# Altium footprint library QUTMS-MCISOLibrary.PcbLib: 51 footprints (part 2 of 4)
Each footprint in its own frame and in the unit in brackets; x right, y up, seen from the top. Pads: shape width x height; smd on the part's side, far side on the other; paste and mask are expansions set on the pad; w line width, h text height; cw(c..) or ccw(c..) is an arc to the next point about the centre after c.
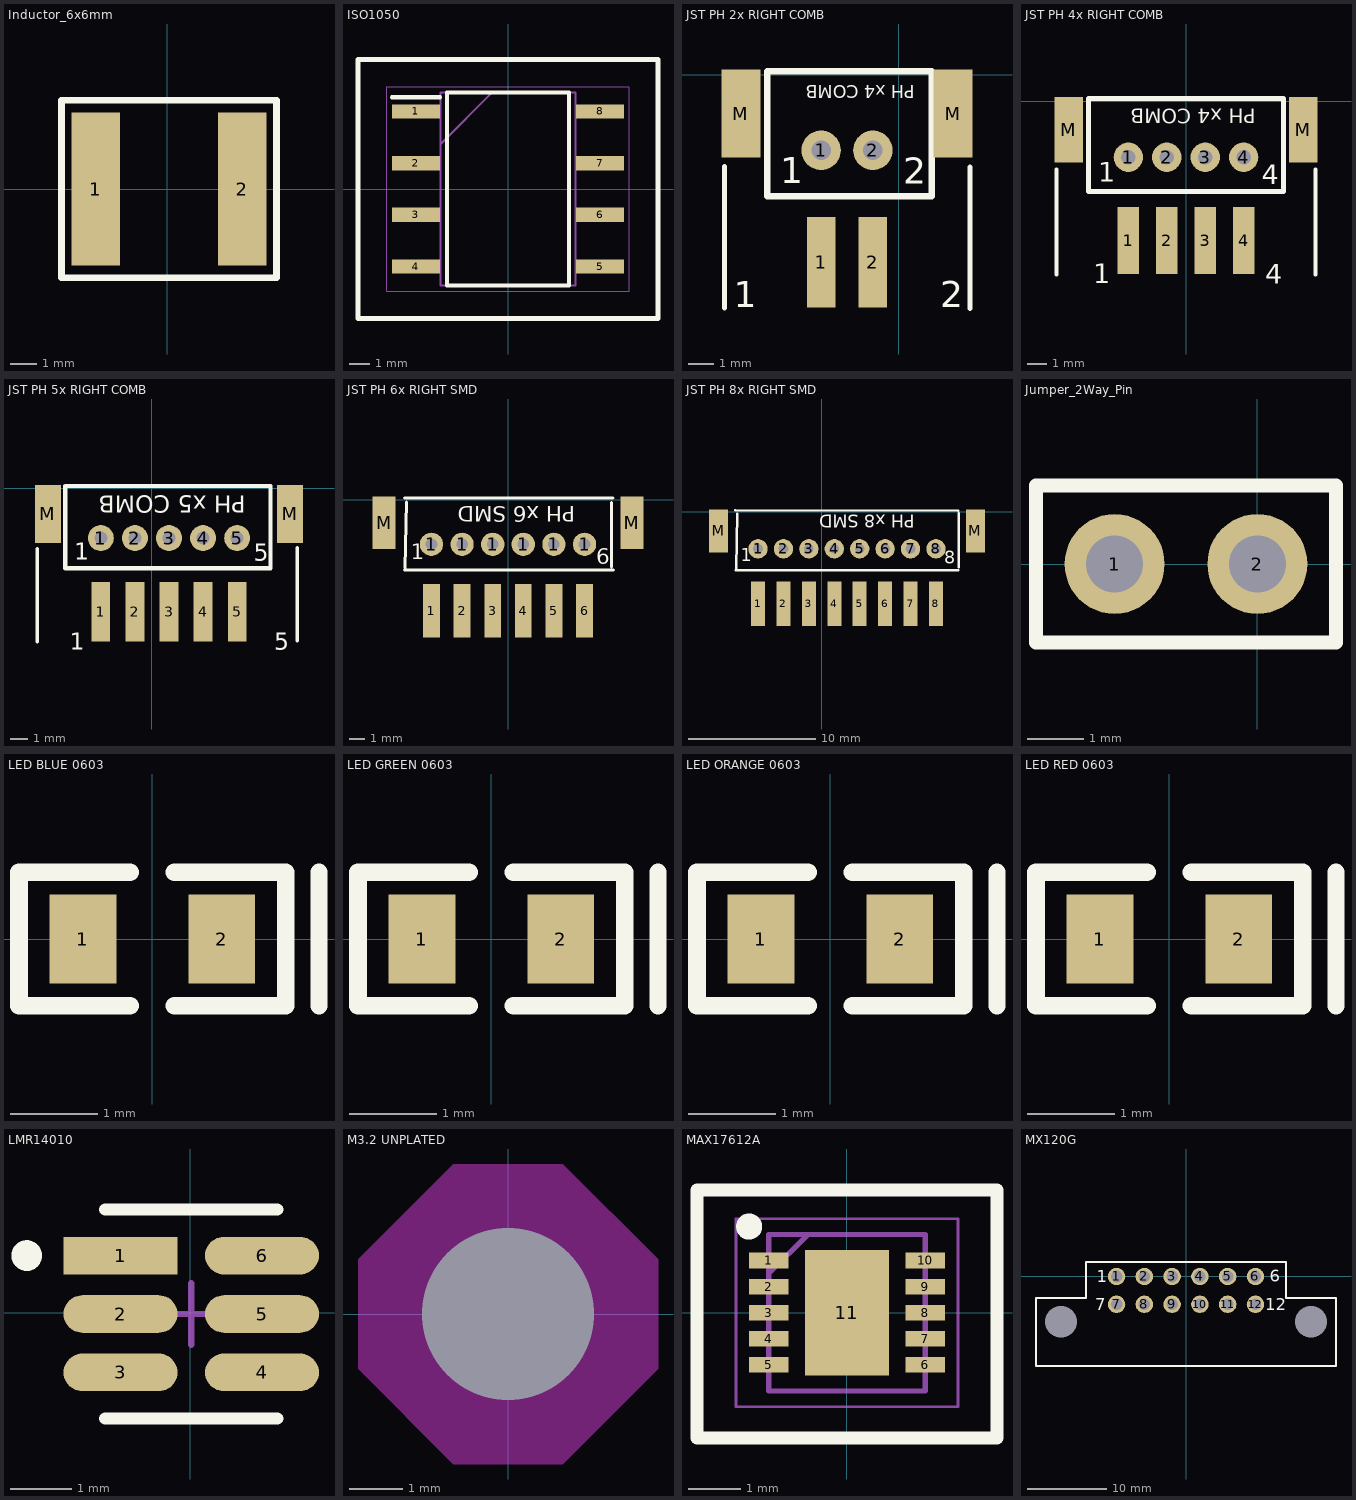
[diagram p1: the footprints below, top view; thin cyan lines are the x and y axes]

## Inductor_6x6mm [mm]
pads (2):
  rect 1.8x5.7 smd: 1(-2.667,0) 2(2.794,0)
Top Overlay:
  lines w0.254: -3.937,-3.302 4.064,-3.302 4.064,3.302 -3.937,3.302 -3.937,-3.302
3D body "74404064221_WE-LQS.stp": height 4.56, standoff 0.06, extent -3,-3 3,3

## ISO1050 [mm]
pads (8):
  rect 2.35x0.7 smd: 1(-4.525,3.81) 2(-4.525,1.27) 3(-4.525,-1.27) 4(-4.525,-3.81) 5(4.525,-3.81) 6(4.525,-1.27) 7(4.525,1.27) 8(4.525,3.81)
Top Overlay:
  lines w0.2: -5.7,4.51 -3.35,4.51 ; -3,-4.75 3,-4.75 3,4.75 -3,4.75 -3,-4.75
  lines w0.254: -7.373,-6.373 7.373,-6.373 7.373,6.373 -7.373,6.373 -7.373,-6.373
Mechanical 13:
  lines w0.1: -3.31,2.21 -0.77,4.75 ; -3.31,-4.75 3.31,-4.75 3.31,4.75 -3.31,4.75 -3.31,-4.75
Mechanical 15:
  lines w0.05: -5.95,-5.025 5.95,-5.025 5.95,5.025 -5.95,5.025 -5.95,-5.025
3D body "ISO1050DUBR.stp": height 4.85, standoff 0, extent -5.2,-4.75 5.2,4.75

## JST PH 2x RIGHT COMB [mm]
pads (6):
  rect 1.1x3.5 smd: 1(-3,-7.25) 2(-1,-7.25)
  round 1.524 hole 0.762: 1(-3,-2.921) 2(-1,-2.921)
  rect 1.5x3.4 smd: M(-6.1,-1.5) M(2.1,-1.5)
Top Overlay:
  lines w0.2: -6.731,-9.017 -6.731,-3.556 ; -4.953,0.127 1.1,0.127 ; 2.75,-9.036 2.75,-3.575
  lines w0.254: -5.08,-4.699 -5.08,0.127 1.275,0.127 1.275,-4.699 -5.08,-4.699
  text "1" at -4.572,-4.191 h1.02
  text "2" at 0.177,-4.223 h1.02
  text "PH x4 COMB" at 0.616,-0.402 h0.5
  text "1" at -6.373,-8.998 h1.02
  text "2" at 1.602,-8.998 h1.02
3D body "JST - PH - Thru (V) - 2Pin - 2.00mm.stp": height 5.89, standoff -3.05, extent -4.88,-4.65 0.981,0.024
3D body "JST - PH - SMD (R) - 2Pin - 2.00mm.stp": height 5.38, standoff 0, extent -6.173,-8.025 1.973,0.23

## JST PH 4x RIGHT COMB [mm]
pads (10):
  rect 1.1x3.5 smd: 1(-3,-7.25) 2(-1,-7.25) 3(1,-7.25) 4(3,-7.25)
  round 1.524 hole 0.762: 1(-3,-2.921) 2(-1,-2.921) 3(1,-2.921) 4(3,-2.921)
  rect 1.5x3.4 smd: M(-6.1,-1.5) M(6.1,-1.5)
Top Overlay:
  lines w0.2: -6.731,-9.017 -6.731,-3.556 ; -4.953,0.127 4.953,0.127 ; 6.731,-9.017 6.731,-3.556
  lines w0.254: -5.08,-4.699 -5.08,0.127 5.08,0.127 5.08,-4.699 -5.08,-4.699
  text "1" at -4.572,-4.191 h1.02
  text "4" at 3.937,-4.318 h1.02
  text "PH x4 COMB" at 3.624,-0.406 h0.75
  text "1" at -4.836,-9.477 h1.02
  text "4" at 4.109,-9.487 h1.02
3D body "JST - PH - Thru (V) - 4Pin - 2.00mm.stp": height 5.89, standoff -3.05, extent -4.931,-4.621 4.93,0.052
3D body "JST - PH - SMD (R) - 4Pin - 2.00mm.stp": height 5.38, standoff 0, extent -6.073,-8.2 6.073,0.055

## JST PH 5x RIGHT COMB [mm]
pads (12):
  rect 1.1x3.5 smd: 1(-3,-7.25) 2(-1,-7.25) 3(1,-7.25) 4(3,-7.25) 5(5,-7.25)
  round 1.524 hole 0.762: 1(-3,-2.921) 2(-1,-2.921) 3(1,-2.921) 4(3,-2.921) 5(5,-2.921)
  rect 1.5x3.4 smd: M(-6.1,-1.5) M(8.1,-1.5)
Top Overlay:
  lines w0.2: -6.731,-9.017 -6.731,-3.556 ; -4.953,0.127 4.953,0.127 ; 8.531,-8.942 8.531,-3.481
  lines w0.254: -5.08,-4.699 6.95,-4.699 6.95,0.127 -5.08,0.127 -5.08,-4.699
  text "5" at 7.177,-9.473 h1.02
  text "1" at -4.836,-9.477 h1.02
  text "PH x5 COMB" at 5.509,-0.427 h1.02
  text "5" at 5.977,-4.248 h1.02
  text "1" at -4.572,-4.191 h1.02
3D body "JST - PH - SMD (R) - 5Pin - 2.00mm.stp": height 5.38, standoff 0, extent -5.998,-8.03 8.148,0.225
3D body "JST - PH - Thru (V) - 5Pin - 2.00mm.stp": height 5.89, standoff -3.05, extent -4.93,-4.621 6.931,0.053

## JST PH 6x RIGHT SMD [mm]
pads (14):
  rect 1.1x3.5 smd: 1(-5,-7.25) 2(-3,-7.25) 3(-1,-7.25) 4(1,-7.25) 5(3,-7.25) 6(5,-7.25)
  round 1.524 hole 0.762: 1(-5,-2.91) 1(-3,-2.91) 1(-1,-2.91) 1(1,-2.91) 1(3,-2.91) 1(5,-2.91)
  rect 1.5x3.4 smd: M(-8.1,-1.5) M(8.1,-1.5)
Top Overlay:
  lines w0.2: -6.775,0.125 6.85,0.125 ; -6.75,-4.6 6.875,-4.6 ; -6.725,-4.45 -6.625,-0.15 ; 6.775,-4.4 6.775,-0.175
  text "6" at 5.777,-4.223 h1.02
  text "1" at -6.348,-3.873 h1.02
  text "PH x6 SMD" at 4.401,-0.406 h1.02
3D body "JST - PH - Thru (V) - 6Pin - 2.00mm.stp": height 5.89, standoff -3.05, extent -6.955,-4.575 6.906,0.099
3D body "JST - PH - SMD (R) - 6Pin - 2.00mm.stp": height 5.38, standoff 0, extent -8.173,-8.225 7.973,0.03

## JST PH 8x RIGHT SMD [mm]
pads (18):
  rect 1.1x3.5 smd: 1(-5,-7.25) 2(-3,-7.25) 3(-1,-7.25) 4(1,-7.25) 5(3,-7.25) 6(5,-7.25) 7(7,-7.25) 8(9,-7.25)
  round 1.524 hole 0.762: 1(-5,-2.91) 2(-3,-2.91) 3(-1,-2.91) 4(1,-2.91) 5(3,-2.91) 6(5,-2.91) 7(7,-2.91) 8(9,-2.91)
  rect 1.5x3.4 smd: M(-8.1,-1.5) M(12.1,-1.5)
Top Overlay:
  lines w0.2: -6.775,0.125 10.75,0.075 ; -6.75,-4.6 10.75,-4.6 ; -6.725,-4.45 -6.625,-0.15 ; 10.8,-4.35 10.8,-0.125
  text "PH x8 SMD" at 7.327,-0.225 h1.02
  text "1" at -6.348,-3.873 h1.02
  text "8" at 9.652,-4.098 h1.02
3D body "JST - PH - SMD (R) - 8Pin - 2.00mm.stp": height 5.38, standoff 0, extent -8.122,-8.002 12.025,0.252
3D body "JST - PH - Thru (V) - 8Pin - 2.00mm.stp": height 5.89, standoff -3.05, extent -6.955,-4.575 10.906,0.099

## Jumper_2Way_Pin [mil]
pads (2):
  round 70 hole 40: 1(-100,0) 2(0,0)
Top Overlay:
  lines w10: -155,-55 -155,55 55,55 55,-55 -155,-55
3D body "77311-y18-02_asm.stp": height 332.16, standoff -120.59, extent -142.38,-47.72 41.87,47.16

## LED BLUE 0603 [mil]
pads (2):
  rect 30x40 smd: 1(-31.24,0) 2(31.24,0)
Top Overlay:
  lines w7.87: 75,-30 75,30
  lines w8: -10,-30 -60,-30 -60,30 -10,30 ; 10,-30 60,-30 60,30 10,30
3D body: height 7, standoff 0, extent -40,-20 40,20
3D body: height 30, standoff 1, extent -30,-17.5 30,17.5

## LED GREEN 0603 [mil]
pads (2):
  rect 30x40 smd: 1(-31.24,0) 2(31.24,0)
Top Overlay:
  lines w7.87: 75,-30 75,30
  lines w8: -10,-30 -60,-30 -60,30 -10,30 ; 10,-30 60,-30 60,30 10,30
3D body: height 7, standoff 0, extent -40,-20 40,20
3D body: height 30, standoff 1, extent -30,-17.5 30,17.5

## LED ORANGE 0603 [mil]
pads (2):
  rect 30x40 smd: 1(-31.24,0) 2(31.24,0)
Top Overlay:
  lines w7.87: 75,-30 75,30
  lines w8: -10,-30 -60,-30 -60,30 -10,30 ; 10,-30 60,-30 60,30 10,30
3D body: height 30, standoff 1, extent -30,-17.5 30,17.5
3D body: height 7, standoff 0, extent -40,-20 40,20

## LED RED 0603 [mil]
pads (2):
  rect 30x40 smd: 1(-31.24,0) 2(31.24,0)
Top Overlay:
  lines w7.87: 75,-30 75,30
  lines w8: -10,-30 -60,-30 -60,30 -10,30 ; 10,-30 60,-30 60,30 10,30
3D body: height 30, standoff 1, extent -30,-17.5 30,17.5
3D body: height 7, standoff 0, extent -40,-20 40,20

## LMR14010 [mm]
pads (6):
  rect 1.854x0.612 smd paste+0 mask+0: 1(-1.136,0.933)
  rrect100% 1.854x0.612 smd paste+0 mask+0: 2(-1.136,-0.017) 3(-1.136,-0.967) 4(1.164,-0.967) 5(1.164,-0.017) 6(1.164,0.933)
Top Overlay:
  circle w0.25: c-2.663,0.933 r0.125
  lines w0.2: -1.386,-1.717 1.414,-1.717 ; -1.386,1.683 1.414,1.683
Mechanical 16:
  lines w0.1: -0.486,-0.017 0.514,-0.017 ; 0.014,-0.517 0.014,0.483
3D body "IC_Texas_Instruments_LMR14010ADDCR_eec.STEP": height 1.1, standoff 0, extent -1.386,-1.467 1.414,1.434

## M3.2 UNPLATED [mm]
pads (1):
  round 0 hole 3.2 unplated mask+2.6: 1(0,0)
Keep-Out Layer:
  region: -2.794,0 -2.794,1.016 -1.016,2.794 0,2.794 0,0
  region: 0,2.794 1.016,2.794 2.794,1.016 2.794,0 0,0
  region: 2.794,0 2.794,-1.016 1.016,-2.794 0,-2.794 0,0
  region: 0,-2.794 -1.016,-2.794 -2.794,-1.016 -2.794,0 0,0

## MAX17612A [mm]
pads (11):
  rect 0.75x0.3 smd: 1(-1.5,1) 2(-1.5,0.5) 3(-1.5,0) 4(-1.5,-0.5) 5(-1.5,-1) 6(1.5,-1) 7(1.5,-0.5) 8(1.5,0) 9(1.5,0.5) 10(1.5,1)
  rect 1.6x2.4 smd: 11(0,0)
Top Overlay:
  circle w0.25: c-1.875,1.65 r0.125
  lines w0.254: -2.873,-2.398 2.873,-2.398 2.873,2.348 -2.873,2.348 -2.873,-2.398
Mechanical 13:
  lines w0.1: -1.5,0.75 -0.75,1.5 ; -1.5,-1.5 -1.5,1.5 1.5,1.5 1.5,-1.5 -1.5,-1.5
Mechanical 15:
  lines w0.05: -2.125,-1.8 -2.125,1.8 2.125,1.8 2.125,-1.8 -2.125,-1.8
3D body "MAX17612AATB+.stp": height 0.8, standoff 0, extent -1.55,-1.5 1.55,1.5

## MX120G [mm]
pads (14):
  round 2.2 hole 1.45: 1(-8.75,0) 2(-5.25,0) 3(-1.75,0) 4(1.75,0) 5(5.25,0) 6(8.75,0) 7(-8.75,-3.5) 8(-5.25,-3.5) 9(-1.75,-3.5) 10(1.75,-3.5) 11(5.25,-3.5) 12(8.75,-3.5)
  round 0 hole 4 mask+0.254: NC(-15.75,-5.7) NC(15.75,-5.7)
Top Overlay:
  lines w0.254: -18.9,-11.25 18.9,-11.25 ; -18.9,-11.2 -18.9,-5.7 -18.9,-2.7 -15.75,-2.7 -12.6,-2.7 -12.6,1.8 12.6,1.8 12.6,-2.7 15.75,-2.7 18.9,-2.7 18.9,-5.7 18.9,-11.2
  text "1" at -11.246,-0.746 h1.52
  text "7" at -11.446,-4.246 h1.52
  text "6" at 10.554,-0.646 h1.52
  text "12" at 9.954,-4.246 h1.52
3D body "143626.stp": height 24.48, standoff -3.14, extent -18.779,-32.1 18.579,0.358